# Altium schematic symbol library PBL - Capacitors.SCHLIB: 105 symbols (part 1 of 2)
Pins are listed as number, name and electrical type; pins without a type are passive.

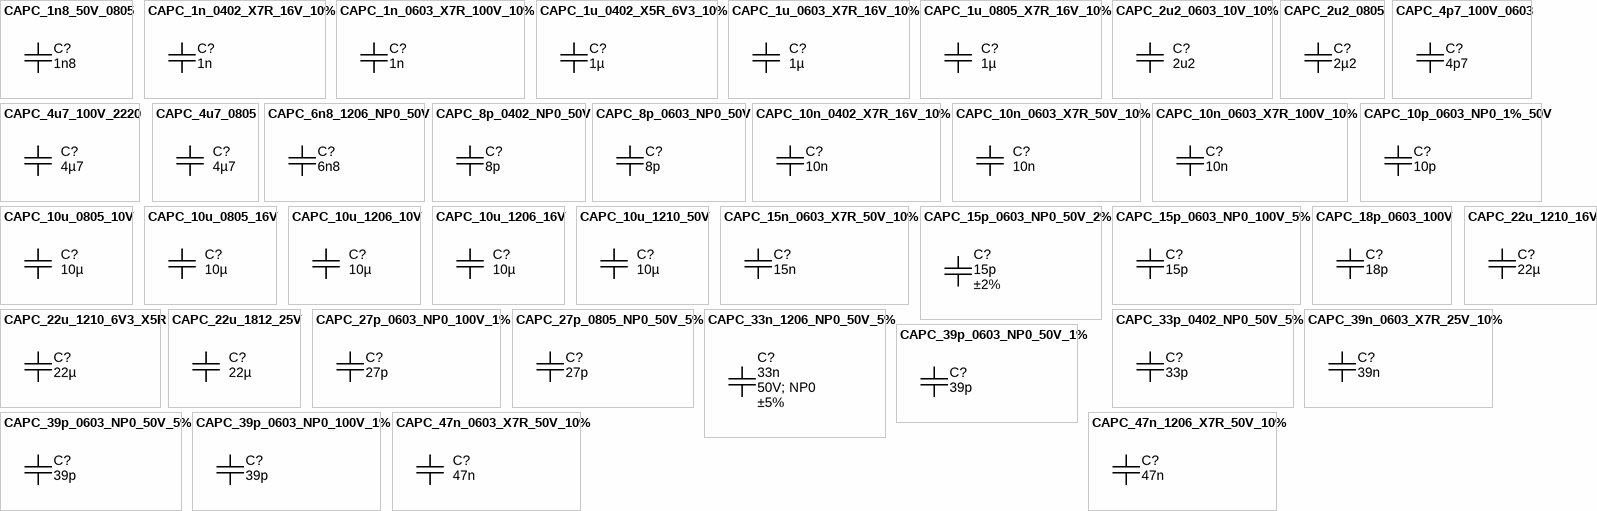
[diagram p0: symbols CAPC_1n8_50V_0805 to CAPC_47n_1206_X7R_50V_10%]

## CAPC_1n8_50V_0805
designator C?, comment value 1n8  (hidden comment: approved sub OK)
Capacitor SMD Cer 1.8nF 10% 50V X7R 0805; Manufacturer 1: AVX Corporation; Manufacturer Part Number 1: 08055C182KAT2A; Ratings: 50V; X7R; SCDType: source*; Tolerance: ±10%; Operating Temperature: -55°C ~ 125°C; Package / Case: 0805 (2012 metric); Supplier 1: Digi-Key; Supplier Part Number 1: 478-1374-1-ND
footprint CAPC2012X135N (Chip Capacitor, Body 2.0x1.2mm, 0805, IPC Medium Density)
pins: 1, 2

## CAPC_1n_0402_X7R_16V_10%
designator C?, comment 1n
Capacitor SMD Cer 1nF 10% 16V X7R 0402; Manufacturer 1: AVX Corporation; Manufacturer Part Number 1: 0402YC102KAT2A; Ratings: 16V; X7R; SCDType: spec; Tolerance: ±10%; Operating Temperature: -55°C ~ 125°C; Package / Case: 0402 (1005 Metric); Size / Dimension: 0.039" L x 0.020" W (1.00mm x 0.50mm); Manufacturer 2: Yageo; Manufacturer Part Number 2: CC0402KRX7R7BB102; Supplier 1: Digi-Key; Supplier Part Number 1: 478-6197-1-ND; ComponentLink1URL: http://www.avx.com/docs/Catalogs/cx7r.pdf; ComponentLink1Description: http://www.avx.com/docs/Catalogs/cx7r.pdf; Supplier 2: Digi-Key; Supplier Part Number 2: 311-1352-1-ND; ComponentLink2URL: http://www.yageo.com/documents/recent/UPY-GPHC_X7R_6.3V-to-50V_8.pdf; ComponentLink2Description: http://www.yageo.com/documents/recent/UPY-GPHC_X7R_6.3V-to-50V_8.pdf; Value: 1n
footprint CAPC1005X55N (Chip Capacitor, Body 1.0x0.5mm, 0402, IPC Medium Density)
pins: 1, 2

## CAPC_1n_0603_X7R_100V_10%
designator C?, comment value 1n  (hidden comment: approved sub OK)
Capacitor SMD Cer 1nF 10% 100V X7R 0603; Manufacturer 1: Murata Electronics North America; Manufacturer Part Number 1: GCM188R72A102KA37D; Ratings: 100V; X7R; Material: ceramic; SCDType: spec; Package / Case: 0603 (1608 metric); Tolerance: ±10%; Supplier 1: Digi-Key; Supplier Part Number 1: 490-4780-1-ND; Operating Temperature: -55°C ~ 125°C; Size / Dimension: 0.063" L x 0.031" W (1.60mm x 0.80mm); Thickness (Max): 0.035" (0.90mm); ComponentLink1URL: http://search.murata.co.jp/Ceramy/image/img/PDF/ENG/GCM188R72A102KA37.pdf; ComponentLink1Description: http://search.murata.co.jp/Ceramy/image/img/PDF/ENG/GCM188R72A102KA37.pdf
footprint CAPC1608X90N (Chip Capacitor, Body 1.6x0.8mm, 0603, IPC Medium Density)
pins: 1, 2

## CAPC_1u_0402_X5R_6V3_10%
designator C?, comment 1µ
Capacitor SMD Cer 1uF 10% 16V X5R 0402; Manufacturer 1: AVX Corporation; Manufacturer Part Number 1: 04026D105KAT2A; Ratings: 6.3V; X5R; SCDType: spec; Tolerance: ±10%; Operating Temperature: -55°C ~ 125°C; Package / Case: 0402 (1005 Metric); Size / Dimension: 0.039" L x 0.020" W (1.00mm x 0.50mm); Supplier 1: Digi-Key; Supplier Part Number 1: 478-2583-1-ND; RoHS 1: RoHS Compliant; ComponentLink1URL: http://www.avx.com/docs/Catalogs/cx5r.pdf; ComponentLink1Description: http://www.avx.com/docs/Catalogs/cx5r.pdf; Supplier 2: Digi-Key; Supplier Part Number 2: 311-1438-1-ND; Manufacturer 2: Yageo; Manufacturer Part Number 2: CC0402KRX5R5BB105; RoHS 2: RoHS Compliant; ComponentLink2URL: http://www.yageo.com/documents/recent/UPY-GPHC_X5R_4V-to-50V_12.pdf; ComponentLink2Description: http://www.yageo.com/documents/recent/UPY-GPHC_X5R_4V-to-50V_12.pdf; Supplier 3: Digi-Key; Supplier Part Number 3: 1276-1010-1-ND; Manufacturer 3: Samsung Electro-Mechanics America, Inc; Manufacturer Part Number 3: CL05A105KQ5NNNC; RoHS 3: RoHS Compliant; ComponentLink3URL: http://www.samsungsem.com/servlet/FileDownload?path=productsearch&sname=CL05A105KQ5NNNC.pdf&oname=CL05A105KQ5NNNC.pdf; ComponentLink3Description: http://www.samsungsem.com/servlet/FileDownload?path=productsearch&sname=CL05A105KQ5NNNC.pdf&oname=CL05A105KQ5NNNC.pdf; Supplier 4: Digi-Key; Supplier Part Number 4: 445-4998-1-ND; Manufacturer 4: TDK Corporation; Manufacturer Part Number 4: C1005X5R0J105K050BB; RoHS 4: RoHS Compliant; ComponentLink4URL: http://product.tdk.com/capacitor/mlcc/en/documents/mlcc_commercial_general_en.pdf; ComponentLink4Description: http://product.tdk.com/capacitor/mlcc/en/documents/mlcc_commercial_general_en.pdf; Supplier 5: Digi-Key; Supplier Part Number 5: 490-1320-1-ND; Manufacturer 5: Murata Electronics North America; Manufacturer Part Number 5: GRM155R60J105KE19D; RoHS 5: RoHS Compliant; ComponentLink5URL: http://www.murata.com/products/catalog/pdf/c02e.pdf; ComponentLink5Description: http://www.murata.com/products/catalog/pdf/c02e.pdf; Value: 1µ
footprint CAPC1005X55N (Chip Capacitor, Body 1.0x0.5mm, 0402, IPC Medium Density)
pins: 1, 2

## CAPC_1u_0603_X7R_16V_10%
designator C?, comment value 1µ  (hidden comment: approved sub OK)
Capacitor SMD Cer 1uF 10% 16V X7R 0603; Manufacturer 1: TDK Corporation; Manufacturer Part Number 1: C1608X7R1C105K; Ratings: 16V; X7R; Material: ceramic; SCDType: spec; Package / Case: 0603 (1608 metric); Tolerance: ±10%; Supplier 1: Digi-Key; Supplier Part Number 1: 445-1604-1-ND; ComponentLink1URL: http://product.tdk.com/capacitor/mlcc/en/documents/mlcc_commercial_general_en.pdf; ComponentLink1Description: http://product.tdk.com/capacitor/mlcc/en/documents/mlcc_commercial_general_en.pdf
footprint CAPC1608X90N (Chip Capacitor, Body 1.6x0.8mm, 0603, IPC Medium Density)
pins: 1, 2

## CAPC_1u_0805_X7R_16V_10%
designator C?, comment value 1µ  (hidden comment: approved sub OK)
Capacitor SMD Cer 1uF 10% 16V X7R 0805; Manufacturer 1: Yageo; Manufacturer Part Number 1: CC0805KKX7R7BB105; Ratings: 16V; X7R; Material: ceramic; SCDType: spec; Package / Case: 0805 (2012 metric); Tolerance: ±10%; Supplier 1: Digi-Key; Supplier Part Number 1: 311-1365-6-ND; RoHS 1: RoHS Compliant; Temperature Coefficient: X7R; ComponentLink1URL: http://www.yageo.com/documents/recent/UPY-GPHC_X7R_6.3V-to-50V_8.pdf; ComponentLink1Description: http://www.yageo.com/documents/recent/UPY-GPHC_X7R_6.3V-to-50V_8.pdf; Supplier 2: Digi-Key; Supplier Part Number 2: 399-1284-6-ND; Manufacturer 2: Kemet; Manufacturer Part Number 2: C0805C105K4RACTU; RoHS 2: RoHS Compliant; ComponentLink2URL: http://www.kemet.com/datasheets&C0805C105K4RACTU; ComponentLink2Description: http://www.kemet.com/datasheets&C0805C105K4RACTU; Supplier 3: Digi-Key; Supplier Part Number 3: 1276-1026-6-ND; Manufacturer 3: Samsung Electro-Mechanics America, Inc; Manufacturer Part Number 3: CL21B105KOFNNNE; RoHS 3: RoHS Compliant; ComponentLink3URL: http://www.samsungsem.com/servlet/FileDownload?type=spec&file=CL21B105KOFNNNE.pdf; ComponentLink3Description: http://www.samsungsem.com/servlet/FileDownload?type=spec&file=CL21B105KOFNNNE.pdf; Supplier 4: Digi-Key; Supplier Part Number 4: 445-1358-6-ND; Manufacturer 4: TDK Corporation; Manufacturer Part Number 4: C2012X7R1C105K125AA; RoHS 4: RoHS Compliant; ComponentLink4URL: http://product.tdk.com/capacitor/mlcc/en/documents/mlcc_commercial_general_en.pdf; ComponentLink4Description: http://product.tdk.com/capacitor/mlcc/en/documents/mlcc_commercial_general_en.pdf
footprint CAPC2012X135N (Chip Capacitor, Body 2.0x1.2mm, 0805, IPC Medium Density)
pins: 1, 2

## CAPC_2u2_0603_10V_10%
designator C?, comment value 2u2  (hidden comment: approved sub OK)
Capacitor SMD Cer 2.2uF 10% 10V X5R 0603; Manufacturer 1: AVX Corporation; Manufacturer Part Number 1: 0603ZD225KAT2A; Ratings: 10V; X5R; Material: ceramic; SCDType: spec; Package / Case: 0603 (1608 metric); Tolerance: ±10%; Supplier 1: Digi-Key; Supplier Part Number 1: 478-6212-1-ND; ComponentLink1URL: http://www.avx.com/docs/Catalogs/cx5r.pdf; ComponentLink1Description: http://www.avx.com/docs/Catalogs/cx5r.pdf
footprint CAPC1608X90N (Chip Capacitor, Body 1.6x0.8mm, 0603, IPC Medium Density)
pins: 1, 2

## CAPC_2u2_0805
designator C?, comment value 2µ2  (hidden comment: approved sub OK)
Capacitor SMD Cer 2.2uF 10% 16V X7R 0805; Manufacturer 1: Kemet; Manufacturer Part Number 1: C0805C225K4RACTU; Ratings: 16V; X7R; SCDType: undef; Supplier 1: Digi-Key; Supplier Part Number 1: 399-3523-1-ND; Tolerance: ±10%; Package / Case: 0805 (2012 metric)
footprint CAPC2012X135N (Chip Capacitor, Body 2.0x1.2mm, 0805, IPC Medium Density)
pins: 1, 2

## CAPC_4p7_100V_0603
designator C?, comment value 4p7  (hidden comment: approved sub OK)
Capacitor SMD Cer 4.7pF ±0.25pF 100V NP0 0603; Manufacturer 1: AVX Corporation; Manufacturer Part Number 1: 06031A4R7CAT2A; Ratings: 100V; NP0; SCDType: source*; Tolerance: ±0.25pF; Operating Temperature: -55°C ~ 125°C; Package / Case: 0603 (1608 metric); Supplier 1: Digi-Key; Supplier Part Number 1: 478-4992-1-ND
footprint CAPC1608X90N (Chip Capacitor, Body 1.6x0.8mm, 0603, IPC Medium Density)
pins: 1, 2

## CAPC_4u7_100V_2220
designator C?, comment value 4µ7  (hidden comment: approved sub OK)
Capacitor SMD Cer 4.7uF 10% 100V X7R 2220; Manufacturer: TDK Corporation; Manufacturer Part Number: C5750X7R2A475K; Ratings: 100V; X7R; Material: ceramic; SCDType: undef; Package / Case: 2220 (5750 Metric); Tolerance: ±10%; Supplier 1: Digi-Key; Supplier Part Number 1: 445-4526-1-ND
footprint CAPC5750X250N (Chip Capacitor, Body 5.7x5.0mm, 2220, IPC Medium Density)
pins: 1, 2

## CAPC_4u7_0805
designator C?, comment value 4µ7  (hidden comment: approved sub OK)
Capacitor SMD Cer 4.7uF 10% 16V X5R 0805; Manufacturer 1: Taiyo Yuden; Manufacturer Part Number 1: EMK212BJ475KG-T; Ratings: 16V; X5R; Material: ceramic; SCDType: spec; Package / Case: 0805 (2012 Metric); Tolerance: ±10%; Supplier 1: Digi-Key; Supplier Part Number 1: 587-1294-1-ND; Operating Temperature: -55°C ~ 85°C; Size / Dimension: 0.079" L x 0.049" W (2.00mm x 1.25mm); Thickness (Max): 0.053" (1.35mm); ComponentLink1URL: http://www.yuden.co.jp/productdata/catalog/en/mlcc01_e.pdf; ComponentLink1Description: http://www.yuden.co.jp/productdata/catalog/en/mlcc01_e.pdf; Supplier 2: Digi-Key; Supplier Part Number 2: 1276-1065-1-ND; Manufacturer 2: Samsung Electro-Mechanics America, Inc; Manufacturer Part Number 2: CL21A475KOFNNNE; RoHS 2: RoHS Compliant; ComponentLink2URL: http://www.samsungsem.com/servlet/FileDownload?type=spec&file=CL21A475KOFNNNE.pdf; ComponentLink2Description: http://www.samsungsem.com/servlet/FileDownload?type=spec&file=CL21A475KOFNNNE.pdf; Supplier 3: Digi-Key; Supplier Part Number 3: 399-8101-1-ND; Manufacturer 3: Kemet; Manufacturer Part Number 3: C0805C475K4PACTU; RoHS 3: RoHS Compliant; ComponentLink3URL: http://capacitoredge.kemet.com/capedge2/DataSheet?pn=C0805C475K4PACTU; ComponentLink3Description: http://capacitoredge.kemet.com/capedge2/DataSheet?pn=C0805C475K4PACTU; Supplier 4: Digi-Key; Supplier Part Number 4: 490-7215-1-ND; Manufacturer 4: Murata Electronics North America; Manufacturer Part Number 4: GRM21BR61C475MA88L; RoHS 4: RoHS Compliant; ComponentLink4URL: http://psearch.murata.com/capacitor/product/GRM21BR61C475MA88#.pdf; ComponentLink4Description: http://psearch.murata.com/capacitor/product/GRM21BR61C475MA88#.pdf; Supplier 5: Digi-Key; Supplier Part Number 5: 445-7640-1-ND; Manufacturer 5: TDK Corporation; Manufacturer Part Number 5: C2012X5R1C475K125AC; RoHS 5: RoHS Compliant; ComponentLink5URL: http://product.tdk.com/capacitor/mlcc/en/documents/mlcc_commercial_general_en.pdf; ComponentLink5Description: http://product.tdk.com/capacitor/mlcc/en/documents/mlcc_commercial_general_en.pdf; RoHS 1: RoHS Compliant
footprint CAPC2012X135N (Chip Capacitor, Body 2.0x1.2mm, 0805, IPC Medium Density)
pins: 1, 2

## CAPC_6n8_1206_NP0_50V
designator C?, comment 6n8
Capacitor SMD Cer 6.8nF 5% 50V NP0 1206; Manufacturer 1: TDK Corporation; Manufacturer Part Number 1: C3216C0G1H682J/0.60; Ratings: 50V; NP0; Material: Ceramic NP0; SCDType: spec; Tolerance: ±5%; Package / Case: 1206 (3216 metric); Supplier 1: Digi-Key; Supplier Part Number 1: 445-4005-1-ND; Value: 6n8
footprint CAPC3216X180N (Chip Capacitor, Body 3.2x1.6mm, 1.8mm H, 1206, IPC Medium Density)
pins: 1, 2

## CAPC_8p_0402_NP0_50V
designator C?, comment 8p
Capacitor SMD Cer 8pF ±0.5pF 50V NP0 0402; Manufacturer 1: Murata Electronics North America; Manufacturer Part Number 1: GRM1555C1H8R0DA01D; Ratings: 50V; NP0; SCDType: spec; Tolerance: ±0.5pF; Operating Temperature: -55°C ~ 125°C; Package / Case: 0402 (1005 Metric); Size / Dimension: 0.039" L x 0.020" W (1.00mm x 0.50mm); Supplier 1: Digi-Key; Supplier Part Number 1: 490-5867-1-ND; Supplier 2: Digi-Key; Supplier Part Number 2: 04025A8R0JAT2A-ND; Manufacturer 2: AVX Corporation; Manufacturer Part Number 2: 04025A8R0JAT2A; ComponentLink2URL: http://www.avx.com/docs/Catalogs/ccog.pdf; ComponentLink2Description: http://www.avx.com/docs/Catalogs/ccog.pdf; ComponentLink1URL: http://search.murata.co.jp/Ceramy/image/img/w_hinm/L0005E.pdf; ComponentLink1Description: http://search.murata.co.jp/Ceramy/image/img/w_hinm/L0005E.pdf; Value: 8p
footprint CAPC1005X55N (Chip Capacitor, Body 1.0x0.5mm, 0402, IPC Medium Density)
pins: 1, 2

## CAPC_8p_0603_NP0_50V
designator C?, comment 8p
Capacitor SMD Cer 8pF ±0.5pF 50V NP0 0603; Manufacturer 1: Murata Electronics North America; Manufacturer Part Number 1: GRM1885C1H8R0DZ01D; Ratings: 50V; NP0; SCDType: undef; Tolerance: ±0.5pF; Operating Temperature: -55°C ~ 125°C; Package / Case: 0603 (1608 Metric); Size / Dimension: 0.063" L x 0.032" W (1.60mm x 0.81mm); Thickness (Max): 0.035" (0.90mm); Supplier 1: Digi-Key; Supplier Part Number 1: 490-1399-1-ND; ComponentLink1URL: http://search.murata.co.jp/Ceramy/image/img/PDF/ENG/GRM1885C1H8R0DZ01.pdf; ComponentLink1Description: GRM1885C1H8R0DZ01 datasheet.pdf; Value: 8p
footprint CAPC1608X90N (Chip Capacitor, Body 1.6x0.8mm, 0603, IPC Medium Density)
pins: 1, 2

## CAPC_10n_0402_X7R_16V_10%
designator C?, comment 10n
Capacitor SMD Cer 10nF 10% 16V X7R 0402; Manufacturer 1: AVX Corporation; Manufacturer Part Number 1: 0402YC103KAT2A; Ratings: 16V; X7R; SCDType: spec; Tolerance: ±10%; Operating Temperature: -55°C ~ 125°C; Package / Case: 0402 (1005 Metric); Size / Dimension: 0.039" L x 0.020" W (1.00mm x 0.50mm); Manufacturer 2: Yageo; Manufacturer Part Number 2: CC0402KRX7R7BB103; Supplier 1: Digi-Key; Supplier Part Number 1: 478-1114-1-ND; ComponentLink1URL: http://www.avx.com/docs/Catalogs/cx7r.pdf; ComponentLink1Description: http://www.avx.com/docs/Catalogs/cx7r.pdf; Supplier 2: Digi-Key; Supplier Part Number 2: 311-1042-1-ND; ComponentLink2URL: http://www.yageo.com/documents/recent/UPY-GPHC_X7R_6.3V-to-50V_8.pdf; ComponentLink2Description: http://www.yageo.com/documents/recent/UPY-GPHC_X7R_6.3V-to-50V_8.pdf; Value: 10n
footprint CAPC1005X55N (Chip Capacitor, Body 1.0x0.5mm, 0402, IPC Medium Density)
pins: 1, 2

## CAPC_10n_0603_X7R_50V_10%
designator C?, comment value 10n  (hidden comment: approved sub OK)
Capacitor SMD Cer 10nF 10% 50V X7R 0603; Manufacturer 1: TDK Corporation; Manufacturer Part Number 1: C1608X7R1H103K; Ratings: 50V; X7R; Material: ceramic; SCDType: spec; Package / Case: 0603 (1608 metric); Tolerance: ±10%; Supplier 1: Digi-Key; Supplier Part Number 1: 445-1311-1-ND; ComponentLink1URL: http://product.tdk.com/capacitor/mlcc/en/documents/mlcc_commercial_general_en.pdf; ComponentLink1Description: http://product.tdk.com/capacitor/mlcc/en/documents/mlcc_commercial_general_en.pdf; Supplier 2: Digi-Key; Supplier Part Number 2: 478-1227-1-ND; Manufacturer 2: AVX Corporation; Manufacturer Part Number 2: 06035C103KAT2A; ComponentLink2URL: http://www.avx.com/docs/Catalogs/cx7r.pdf; ComponentLink2Description: http://www.avx.com/docs/Catalogs/cx7r.pdf
footprint CAPC1608X90N (Chip Capacitor, Body 1.6x0.8mm, 0603, IPC Medium Density)
pins: 1, 2

## CAPC_10n_0603_X7R_100V_10%
designator C?, comment value 10n  (hidden comment: approved sub OK)
Capacitor SMD Cer 10nF 10% 100V X7R 0603; Manufacturer: Murata Electronics North America; Manufacturer Part Number: GCM188R72A103KA37D; Ratings: 100V; X7R; Material: ceramic; SCDType: undef; Package / Case: 0603 (1608 metric); Tolerance: ±10%; Supplier 1: Digi-Key; Supplier Part Number 1: 490-4781-1-ND
footprint CAPC1608X90N (Chip Capacitor, Body 1.6x0.8mm, 0603, IPC Medium Density)
pins: 1, 2

## CAPC_10p_0603_NP0_1%_50V
designator C?, comment 10p
Capacitor SMD Cer 10pF 5% 50V NP0 0603; Manufacturer 1: Murata Electronics North America; Manufacturer Part Number 1: GRM1885C1H100FA01J; Ratings: 50V; NP0; SCDType: spec; Tolerance: ±5%; Operating Temperature: -55°C ~ 125°C; Package / Case: 0603 (1608 Metric); Size / Dimension: 0.063" L x 0.032" W (1.60mm x 0.81mm); Thickness (Max): 0.035" (0.90mm); Supplier 1: Digi-Key; Supplier Part Number 1: GRM1885C1H100FA01J-ND; Value: 10p
footprint CAPC1608X90N (Chip Capacitor, Body 1.6x0.8mm, 0603, IPC Medium Density)
pins: 1, 2

## CAPC_10u_0805_10V
designator C?, comment value 10µ  (hidden comment: approved sub OK)
Capacitor SMD Cer 10uF 10% 10V X5R 0805; Manufacturer 1: AVX Corporation; Manufacturer Part Number 1: 0805ZD106KAT2A; Ratings: 10V; X5R; Material: ceramic; SCDType: spec; Package / Case: 0805 (2012 metric); Tolerance: ±10%; Manufacturer 2: Kemet; Manufacturer Part Number 2: C0805C106K8PACTU; Supplier 1: Digi-Key; Supplier Part Number 1: 478-5167-1-ND; ComponentLink1URL: http://www.avx.com/docs/Catalogs/cx5r.pdf; ComponentLink1Description: http://www.avx.com/docs/Catalogs/cx5r.pdf; ComponentLink2URL: http://www.kemet.com/datasheets&C0805C106K8PACTU; ComponentLink2Description: http://www.kemet.com/datasheets&C0805C106K8PACTU; Supplier 2: Digi-Key; Supplier Part Number 2: 399-4925-1-ND
footprint CAPC2012X135N (Chip Capacitor, Body 2.0x1.2mm, 0805, IPC Medium Density)
pins: 1, 2

## CAPC_10u_0805_16V
designator C?, comment value 10µ  (hidden comment: approved sub OK)
Capacitor SMD Cer 10uF 10% 16V X7R 0805; Manufacturer 1: Samsung; Manufacturer Part Number 1: CL21B106KBN; Ratings: 16V; X7R; Material: ceramic; SCDType: undef; Package / Case: 0805 (2012 metric); Tolerance: ±10%
footprint CAPC1608N (Chip Capacitor, Body 1.6x0.8mm, IPC Medium Density)
footprint CAPC3216N (Chip Capacitor, Body 3.2x1.6mm, IPC Medium Density)
footprint CAPC2012X135N (Chip Capacitor, Body 2.0x1.2mm, 0805, IPC Medium Density)
pins: 1, 2

## CAPC_10u_1206_10V
designator C?, comment value 10µ  (hidden comment: approved sub OK)
Capacitor SMD Cer 10uF 10% 10V X5R 1206; Manufacturer 1: KEMET; Manufacturer Part Number 1: C1206C106K8PACTU; Ratings: 10V; X5R; Material: ceramic; SCDType: undef; Package / Case: 1206 (3216 metric); Tolerance: ±10%; Supplier 1: Digi-Key; Supplier Part Number 1: C1206C106K8PACTU-ND
footprint CAPC3216X180N (Chip Capacitor, Body 3.2x1.6mm, 1.8mm H, 1206, IPC Medium Density)
pins: 1, 2

## CAPC_10u_1206_16V
designator C?, comment value 10µ  (hidden comment: approved sub OK)
Capacitor SMD Cer 10uF 10% 16V X7R 1206; Manufacturer 1: Kemet; Manufacturer Part Number 1: C1206C106K4RACTU; Ratings: 16V; X7R; Material: ceramic; SCDType: spec; Package / Case: 1206 (3216 metric); Tolerance: ±10%; Supplier 1: Digi-Key; Supplier Part Number 1: 399-3525-1-ND
footprint CAPC3216X180N (Chip Capacitor, Body 3.2x1.6mm, 1.8mm H, 1206, IPC Medium Density)
pins: 1, 2

## CAPC_10u_1210_50V
designator C?, comment 10µ
Capacitor SMD Cer 10uF 20% 16V X5R 1210; Manufacturer 1: Taiyo Yuden; Manufacturer Part Number 1: UMK325BJ106MM-T; Ratings: 50V; X5R; Material: ceramic; SCDType: spec; Package / Case: 1210 (3225 Metric); Tolerance: ±20%; Size / Dimension: 0.126" L x 0.098" W (3.20mm x 2.50mm); Supplier 1: Digi-Key; Supplier Part Number 1: 587-2225-1-ND; Value: 10µ
footprint CAPC3225X220N (Chip Capacitor, Body 3.2x2.5mm, 1210, IPC Medium Density)
pins: 1, 2

## CAPC_15n_0603_X7R_50V_10%
designator C?, comment value 15n  (hidden comment: approved sub OK)
Capacitor SMD Cer 15nF 10% 50V X7R 0603; Manufacturer Part Number 1: GRM188R71H153KA01D; Manufacturer 1: Murata Electronics North America; Ratings: 50V; X7R; SCDType: spec; Tolerance: ±10%; Operating Temperature: -55°C ~ 125°C; Package / Case: 0603 (1608 metric); Supplier 1: Digi-Key; Supplier Part Number 1: 490-1514-1-ND; ComponentLink1URL: http://psearch.murata.com/capacitor/product/GRM188R71H153KA01#.pdf; ComponentLink1Description: http://psearch.murata.com/capacitor/product/GRM188R71H153KA01#.pdf; ComponentLink2URL: http://www.avx.com/docs/Catalogs/cx7r.pdf; ComponentLink2Description: http://www.avx.com/docs/Catalogs/cx7r.pdf; Supplier 2: Digi-Key; Supplier Part Number 2: 478-1229-1-ND; Manufacturer 2: AVX Corporation; Manufacturer Part Number 2: 06035C153KAT2A; Supplier 3: Digi-Key; Supplier Part Number 3: 445-5189-1-ND; Manufacturer 3: TDK Corporation; Manufacturer Part Number 3: C1608X7R1H153K080AA; ComponentLink3URL: http://product.tdk.com/capacitor/mlcc/en/documents/mlcc_commercial_general_en.pdf; ComponentLink3Description: http://product.tdk.com/capacitor/mlcc/en/documents/mlcc_commercial_general_en.pdf
footprint CAPC1608X90N (Chip Capacitor, Body 1.6x0.8mm, 0603, IPC Medium Density)
pins: 1, 2

## CAPC_15p_0603_NP0_50V_2%
designator C?, comment Tolerance: ±2%  (hidden comment: 15p)
Capacitor SMD Cer 15pF 2% 50V NP0 0603; Manufacturer 1: TDK Corporation; Manufacturer Part Number 1: C1608C0G1H150G080AA; Ratings: 50V; NP0; SCDType: source; Operating Temperature: -55°C ~ 125°C; Package / Case: 0603 (1608 Metric); Thickness (Max): 0.035" (0.90mm); Supplier 1: Digi-Key; Supplier Part Number 1: 445-7026-1-ND; RoHS 1: RoHS Compliant; ComponentLink1URL: http://www.tdk.com/pdf/tight_tol_B11.pdf; ComponentLink1Description: http://www.tdk.com/pdf/tight_tol_B11.pdf; Supplier 2: Digi-Key; Supplier Part Number 2: 399-9003-1-ND; Manufacturer 2: Kemet; Manufacturer Part Number 2: C0603C150G5GACTU; RoHS 2: RoHS Compliant; ComponentLink2URL: http://www.kemet.com/datasheets&C0603C150G5GACTU; ComponentLink2Description: http://www.kemet.com/datasheets&C0603C150G5GACTU; Supplier 3: Digi-Key; Supplier Part Number 3: 1276-2188-1-ND; Manufacturer 3: Samsung Electro-Mechanics America, Inc; Manufacturer Part Number 3: CL10C150FB8NNWC; RoHS 3: RoHS Compliant; ComponentLink3URL: http://www.samsungsem.com/servlet/FileDownload?path=productsearch&sname=CL10C150FB8NNWC.pdf&oname=CL10C150FB8NNWC.pdf; ComponentLink3Description: http://www.samsungsem.com/servlet/FileDownload?path=productsearch&sname=CL10C150FB8NNWC.pdf&oname=CL10C150FB8NNWC.pdf; Supplier 4: Digi-Key; Supplier Part Number 4: 06035A150GAT2A-ND; Manufacturer 4: AVX Corporation; Manufacturer Part Number 4: 06035A150GAT2A; RoHS 4: RoHS Compliant; ComponentLink4URL: http://www.avx.com/docs/Catalogs/ccog.pdf; ComponentLink4Description: http://www.avx.com/docs/Catalogs/ccog.pdf; Value: 15p
pins: 1, 2

## CAPC_15p_0603_NP0_100V_5%
designator C?, comment 15p
Capacitor SMD Cer 15pF 5% 100V NP0 0603; Manufacturer 1: AVX Corporation; Manufacturer Part Number 1: 06031A150JAT2A; Ratings: 100V; NP0; SCDType: spec; Tolerance: ±5%; Operating Temperature: -55°C ~ 125°C; Package / Case: 0603 (1608 Metric); Size / Dimension: 0.063" L x 0.032" W (1.60mm x 0.81mm); Thickness (Max): 0.035" (0.90mm); Supplier 1: Digi-Key; Supplier Part Number 1: 478-1141-1-ND; Mounting Type: Surface Mount, MLCC; ComponentLink1URL: http://www.avx.com/docs/Catalogs/ccog.pdf; ComponentLink1Description: http://www.avx.com/docs/Catalogs/ccog.pdf; Value: 15p
footprint CAPC1608X90N (Chip Capacitor, Body 1.6x0.8mm, 0603, IPC Medium Density)
pins: 1, 2

## CAPC_18p_0603_100V
designator C?, comment 18p
Capacitor SMD Cer 18pF 2% 100V NP0 0603; Manufacturer 1: AVX Corporation; Manufacturer Part Number 1: 06031A180GAT2A; Ratings: 100V; NP0; SCDType: spec; Tolerance: ±2%; Operating Temperature: -55°C ~ 125°C; Package / Case: 0603 (1608 Metric); Supplier 1: Digi-Key; Supplier Part Number 1: 478-6025-1-ND; Size / Dimension: 0.063" L x 0.032" W (1.60mm x 0.81mm); Thickness (Max): 0.035" (0.90mm); ComponentLink1URL: http://www.avx.com/docs/Catalogs/ccog.pdf; ComponentLink1Description: http://www.avx.com/docs/Catalogs/ccog.pdf; Value: 18p
footprint CAPC1608X90N (Chip Capacitor, Body 1.6x0.8mm, 0603, IPC Medium Density)
pins: 1, 2

## CAPC_22u_1210_6V3_X5R
designator C?, comment value 22µ  (hidden comment: approved sub OK)
Capacitor SMD Cer 22uF 20% 6.3V X5R 1210; Manufacturer 1: TDK Corporation; Manufacturer Part Number 1: C3225X5R0J226M/2.00; Ratings: 6.3V; X5R; Voltage - Rated: 6V3; SCDType: spec; Tolerance: ±20%; Package / Case: 1210 (3225 metric); Supplier 1: Digi-Key; Supplier Part Number 1: 445-1595-1-ND; Mounting Type: Surface Mount, MLCC; Operating Temperature: -55°C ~ 85°C; Thickness (Max): 0.087" (2.20mm); ComponentLink1URL: http://www.tdk.com/pdf/general_B11.pdf; ComponentLink1Description: http://www.tdk.com/pdf/general_B11.pdf
footprint CAPC3225X220N (Chip Capacitor, Body 3.2x2.5mm, 1210, IPC Medium Density)
pins: 1, 2

## CAPC_22u_1210_16V
designator C?, comment value 22µ  (hidden comment: approved sub OK)
Capacitor SMD Cer 22uF 20% 16V X7R 1210; Manufacturer: TDK Corporation; Manufacturer Part Number: C3225X7R1C226K; Ratings: 16V; X7R; SCDType: spec; Tolerance: ±20%; Package / Case: 1210 (3225 metric); Supplier 1: Digi-Key; Supplier Part Number 1: 445-3945-2-ND
footprint CAPC3225X220N (Chip Capacitor, Body 3.2x2.5mm, 1210, IPC Medium Density)
pins: 1, 2

## CAPC_22u_1812_25V
designator C?, comment value 22µ  (hidden comment: approved sub OK)
Capacitor SMD Cer 22uF 20% 25V X5R 1812; Manufacturer 1: TDK Corporation; Manufacturer Part Number 1: C4532X5R1E226M; Ratings: 25V; X5R; Material: ceramic; SCDType: undef; Package / Case: 1812 (4532 metric); Tolerance: ±20%; Supplier 1: Digi-Key; Supplier Part Number 1: 445-1444-1-ND
footprint CAPC4532X280N (Chip Capacitor, Body 4.5x3.2mm, 1812, IPC Medium Density)
pins: 1, 2

## CAPC_27p_0603_NP0_100V_1%
designator C?, comment 27p
Capacitor SMD Cer 27pF 1% 100V NP0 0603; Manufacturer 1: AVX Corporation; Manufacturer Part Number 1: 06031A270FAT2A; Ratings: 100V; NP0; SCDType: undef; Tolerance: ±1%; Operating Temperature: -55°C ~ 125°C; Package / Case: 0603 (1608 Metric); Supplier 1: Digi-Key; Supplier Part Number 1: 478-3681-1-ND; Value: 27p
footprint CAPC1608X90N (Chip Capacitor, Body 1.6x0.8mm, 0603, IPC Medium Density)
pins: 1, 2

## CAPC_27p_0805_NP0_50V_5%
designator C?, comment value 27p  (hidden comment: approved sub OK)
Capacitor SMD Cer 27pF 5% 50V NP0 0805; Manufacturer 1: Panasonic - ECG; Manufacturer Part Number 1: ECJ-2VC1H270J; Ratings: 50V; NP0; SCDType: undef; Tolerance: ±5%; Operating Temperature: -55°C ~ 125°C; Package / Case: 0805 (2012 metric); Supplier 1: Digi-Key; Supplier Part Number 1: PCC270CGCT-ND
footprint CAPC2012X135N (Chip Capacitor, Body 2.0x1.2mm, 0805, IPC Medium Density)
pins: 1, 2

## CAPC_33n_1206_NP0_50V_5%
designator C?, comment Tolerance: ±5%  Ratings: 50V; NP0  (hidden comment: 33n)
Capacitor SMD Cer 33nF 1206 NP0 50V 5%; Manufacturer 1: TDK Corporation; Manufacturer Part Number 1: C3216C0G1H333J085AA; SCDType: undef; Operating Temperature: -55°C ~ 125°C; Package / Case: 1206 (3216 Metric); Size / Dimension: 0.126" L x 0.063" W (3.20mm x 1.60mm); Thickness (Max): 0.037" (0.95mm); ComponentLink1URL: http://product.tdk.com/capacitor/mlcc/en/documents/mlcc_commercial_general_en.pdf; ComponentLink1Description: http://product.tdk.com/capacitor/mlcc/en/documents/mlcc_commercial_general_en.pdf; Supplier 1: Digi-Key; Supplier Part Number 1: 445-7691-1-ND; Value: 33n
footprint CAPC3216X100N (Chip Capacitor, Body 3.2x1.6mm, 1.0mm H, 1206, IPC Medium Density)
pins: 1, 2

## CAPC_33p_0402_NP0_50V_5%
designator C?, comment 33p
Capacitor SMD Cer 33pF 5% 50V NP0 0402; Manufacturer 1: AVX Corporation; Manufacturer Part Number 1: 04025A330JAT2A; Ratings: 50V; NP0; SCDType: spec; Tolerance: ±5%; Operating Temperature: -55°C ~ 125°C; Package / Case: 0402 (1005 Metric); Size / Dimension: 0.039" L x 0.020" W (1.00mm x 0.50mm); Manufacturer 2: Yageo; Manufacturer Part Number 2: CC0402JRNPO9BN330; Thickness (Max): 0.022" (0.55mm); Supplier 1: Digi-Key; Supplier Part Number 1: 478-1076-1-ND; ComponentLink1URL: http://www.avx.com/docs/Catalogs/ccog.pdf; ComponentLink1Description: http://www.avx.com/docs/Catalogs/ccog.pdf; ComponentLink2URL: http://www.yageo.com/documents/recent/UPY-GP_NP0_16V-to-50V_8.pdf; ComponentLink2Description: http://www.yageo.com/documents/recent/UPY-GP_NP0_16V-to-50V_8.pdf; Supplier 2: Digi-Key; Supplier Part Number 2: 311-1020-1-ND; Value: 33p
footprint CAPC1005X55N (Chip Capacitor, Body 1.0x0.5mm, 0402, IPC Medium Density)
pins: 1, 2

## CAPC_39n_0603_X7R_25V_10%
designator C?, comment value 39n  (hidden comment: approved sub OK)
Capacitor SMD Cer 39nF 10% 25V X7R 0603; Manufacturer 1: Kemet; Manufacturer Part Number 1: C0603C393K3RACTU; Ratings: 100V; X7R; Material: ceramic; SCDType: spec; Package / Case: 0603 (1608 Metric); Tolerance: ±10%; Supplier 1: Digi-Key; Operating Temperature: -55°C ~ 125°C; Size / Dimension: 0.063" L x 0.031" W (1.60mm x 0.80mm); Thickness (Max): 0.035" (0.90mm); Temperature Coefficient: X7R; Voltage - Rated: 25V; Supplier Part Number 1: 399-7914-1-ND
footprint CAPC1608X90N (Chip Capacitor, Body 1.6x0.8mm, 0603, IPC Medium Density)
pins: 1, 2

## CAPC_39p_0603_NP0_50V_1%
designator C?, comment 39p
Capacitor SMD Cer 39pF 1% 50V NP0 0603; Manufacturer 1: AVX Corporation; Manufacturer Part Number 1: 06035A390FAT; Ratings: 50V; NP0; SCDType: source; Temperature Coefficient: C0G, NP0; Tolerance: ±1%; Operating Temperature: -55°C ~ 125°C; Package / Case: 0603 (1608 Metric); Supplier 1: Digi-Key; Supplier Part Number 1: 478-7918-6-ND; RoHS 1: RoHS Compliant; ComponentLink1URL: http://www.avx.com/docs/Catalogs/ccog.pdf; ComponentLink1Description: http://www.avx.com/docs/Catalogs/ccog.pdf; Supplier 2: Digi-Key; Supplier Part Number 2: 399-7909-6-ND; Manufacturer 2: Kemet; Manufacturer Part Number 2: C0603C390F5GACTU; RoHS 2: RoHS Compliant; ComponentLink2URL: http://www.kemet.com/datasheets&C0603C390F5GACTU; ComponentLink2Description: http://www.kemet.com/datasheets&C0603C390F5GACTU; Supplier 3: Digi-Key; Supplier Part Number 3: GRM1885C1H390FA01D-ND; Manufacturer 3: Murata Electronics North America; Manufacturer Part Number 3: GRM1885C1H390FA01; RoHS 3: RoHS Compliant; ComponentLink3URL: http://search.murata.co.jp/Ceramy/image/img/A01X/G101/ENG/GRM1885C1H390FA01-01.pdf; ComponentLink3Description: http://search.murata.co.jp/Ceramy/image/img/A01X/G101/ENG/GRM1885C1H390FA01-01.pdf; Value: 39p
footprint CAPC1608X90N (Chip Capacitor, Body 1.6x0.8mm, 0603, IPC Medium Density)
pins: 1, 2

## CAPC_39p_0603_NP0_50V_5%
designator C?, comment 39p
Capacitor SMD Cer 39pF 5% 50V NP0 0603; Manufacturer 1: TDK Corporation; Manufacturer Part Number 1: C1608C0G1H390J; Ratings: 50V; NP0; SCDType: undef; Tolerance: ±5%; Operating Temperature: -55°C ~ 125°C; Package / Case: 0603 (1608 Metric); Size / Dimension: 0.063" L x 0.031" W (1.60mm x 0.80mm); Thickness (Max): 0.031" (0.80mm); Supplier 1: Digi-Key; Supplier Part Number 1: 445-1276-1-ND; ComponentLink1URL: http://www.tdk.com/pdf/general_B11.pdf; ComponentLink1Description: Datasheet; Value: 39p
footprint CAPC1608X90N (Chip Capacitor, Body 1.6x0.8mm, 0603, IPC Medium Density)
pins: 1, 2

## CAPC_39p_0603_NP0_100V_1%
designator C?, comment 39p
Capacitor SMD Cer 39pF 1% 100V NP0 0603; Manufacturer 1: AVX Corporation; Manufacturer Part Number 1: 06031A390FAT2A; Ratings: 100V; NP0; SCDType: source; Temperature Coefficient: C0G, NP0; Tolerance: ±1%; Operating Temperature: -55°C ~ 125°C; Package / Case: 0603 (1608 Metric); Supplier 1: Digi-Key; Supplier Part Number 1: 478-5773-6-ND; RoHS 1: RoHS Compliant; ComponentLink1URL: http://www.avx.com/docs/Catalogs/ccog.pdf; ComponentLink1Description: http://www.avx.com/docs/Catalogs/ccog.pdf; Supplier 2: Digi-Key; Supplier Part Number 2: C0603C390F1GACTU-ND; Manufacturer 2: Kemet; Manufacturer Part Number 2: C0603C390F1GACTU; RoHS 2: RoHS Compliant; ComponentLink2URL: http://www.kemet.com/datasheets&C0603C390F1GACTU; ComponentLink2Description: http://www.kemet.com/datasheets&C0603C390F1GACTU; Supplier 3: Mouser; Supplier Part Number 3: 81-GRM1885C2A390FA1J; Manufacturer 3: Murata; Manufacturer Part Number 3: GRM1885C2A390FA01J; RoHS 3: RoHS Compliant; ComponentLink3URL: http://psearch.murata.com/capacitor/product/GRM0225C1C1R0WD05%23.pdf; ComponentLink3Description: http://psearch.murata.com/capacitor/product/GRM0225C1C1R0WD05%23.pdf; Value: 39p
footprint CAPC1608X90N (Chip Capacitor, Body 1.6x0.8mm, 0603, IPC Medium Density)
pins: 1, 2

## CAPC_47n_0603_X7R_50V_10%
designator C?, comment 47n
Capacitor SMD Cer 47nF 10% 50V X7R 0603; Manufacturer 1: AVX Corporation; Manufacturer Part Number 1: 06035C473KAT2A; Ratings: 50V; X7R; Material: ceramic; SCDType: spec; Manufacturer 3: Samsung; Manufacturer Part Number 3: CL10B473KBN; Package / Case: 0603 (1608 metric); Tolerance: ±10%; Supplier 1: Digi-Key; Supplier Part Number 1: 478-5146-1-ND; Manufacturer Part Number 2: C1608X7R1H473K080AA; Manufacturer 2: TDK Corporation; ComponentLink1URL: http://www.avx.com/docs/Catalogs/cx7r.pdf; ComponentLink1Description: http://www.avx.com/docs/Catalogs/cx7r.pdf; Supplier 2: Digi-Key; Supplier Part Number 2: 445-1313-1-ND; ComponentLink2URL: http://product.tdk.com/capacitor/mlcc/en/documents/mlcc_commercial_general_en.pdf; ComponentLink2Description: http://product.tdk.com/capacitor/mlcc/en/documents/mlcc_commercial_general_en.pdf; Value: 47n
footprint CAPC1608X90N (Chip Capacitor, Body 1.6x0.8mm, 0603, IPC Medium Density)
footprint CAPC3216N (Chip Capacitor, Body 3.2x1.6mm, IPC Medium Density)
footprint CAPC2012N (Chip Capacitor, Body 2.0x1.2mm, IPC Medium Density)
pins: 1, 2

## CAPC_47n_1206_X7R_50V_10%
designator C?, comment 47n
Capacitor SMD Cer 47nF 10% 50V X7R 1206; Manufacturer 1: Yageo; Manufacturer Part Number 1: CC1206KRX7R9BB473; Ratings: 50V; X7R; SCDType: spec; Package / Case: 1206 (3216 Metric); Tolerance: ±10%; Operating Temperature: -55°C ~ 125°C; Size / Dimension: 0.126" L x 0.063" W (3.20mm x 1.60mm); Supplier 1: Digi-Key; Voltage - Rated: 50V; Supplier Part Number 1: 311-1178-1-ND; Value: 47n
footprint CAPC3216X180N (Chip Capacitor, Body 3.2x1.6mm, 1.8mm H, 1206, IPC Medium Density)
pins: 1, 2

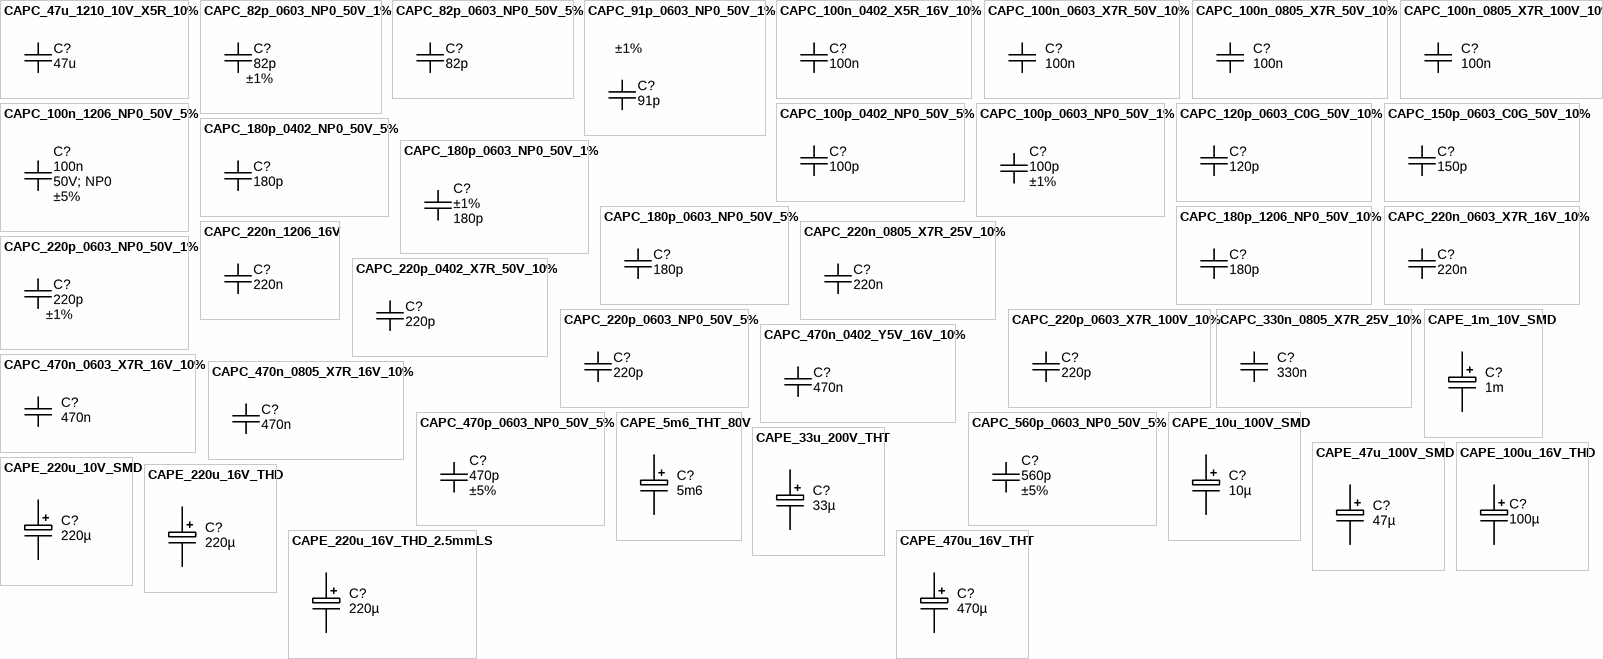
[diagram p1: symbols CAPC_47u_1210_10V_X5R_10% to CAPE_470u_16V_THT]

## CAPC_47u_1210_10V_X5R_10%
designator C?, comment 47u
Capacitor SMD Cer 47uF 10% 10V 1210; Manufacturer 1: Murata Electronics North America; Manufacturer Part Number 1: GRM32ER61A476KE20L; Ratings: 10V; X5R; SCDType: undef; Package / Case: 1210 (3225 Metric); Tolerance: ±10%; Operating Temperature: -55°C ~ 85°C; Size / Dimension: 0.126" L x 0.098" W (3.20mm x 2.50mm); Supplier 1: Digi-Key; Voltage - Rated: 10V; Supplier Part Number 1: 490-3887-2-ND; Value: 47u
footprint CAPC3225X220N (Chip Capacitor, Body 3.2x2.5mm, 1210, IPC Medium Density)
pins: 1, 2

## CAPC_82p_0603_NP0_50V_1%
designator C?, comment Tolerance: ±1%  (hidden comment: 82p)
Capacitor SMD Cer 82pF 1% 50V NP0 0603; Manufacturer 1: Kemet; Manufacturer Part Number 1: C0603C820F5GACTU; Ratings: 50V; NP0; SCDType: spec; Operating Temperature: -55°C ~ 125°C; Package / Case: 0603 (1608 Metric); Size / Dimension: 0.063" L x 0.031" W (1.60mm x 0.80mm); Thickness (Max): 0.034" (0.87mm); Supplier 1: Digi-Key; Supplier Part Number 1: 399-7959-1-ND; ComponentLink1URL: http://www.kemet.com/datasheets&C0603C820F5GACTU; ComponentLink1Description: http://www.kemet.com/datasheets&C0603C820F5GACTU; Supplier 2: Digi-Key; Supplier Part Number 2: 06035A820FAT2A-ND; Manufacturer 2: AVX Corporation; Manufacturer Part Number 2: 06035A820FAT2A; RoHS 2: RoHS Compliant; ComponentLink2URL: http://www.avx.com/docs/Catalogs/ccog.pdf; ComponentLink2Description: http://www.avx.com/docs/Catalogs/ccog.pdf; RoHS 1: RoHS Compliant; Supplier 3: Digi-Key; Supplier Part Number 3: GRM1885C1H820FA01D-ND; Manufacturer 3: Murata Electronics North America; Manufacturer Part Number 3: GRM1885C1H820FA01D; RoHS 3: RoHS Compliant; ComponentLink3URL: http://www.murata.com/products/catalog/pdf/c02e.pdf; ComponentLink3Description: http://www.murata.com/products/catalog/pdf/c02e.pdf; Supplier 4: Digi-Key; Supplier Part Number 4: 1276-2340-1-ND; Manufacturer 4: Samsung Electro-Mechanics America, Inc; Manufacturer Part Number 4: CL10C820FB8NNNC; RoHS 4: RoHS Compliant; ComponentLink4URL: http://www.samsungsem.com/servlet/FileDownload?type=spec&file=CL10C820FB8NNNC.pdf; ComponentLink4Description: http://www.samsungsem.com/servlet/FileDownload?type=spec&file=CL10C820FB8NNNC.pdf; Value: 82p
footprint CAPC1608X90N (Chip Capacitor, Body 1.6x0.8mm, 0603, IPC Medium Density)
pins: 1, 2

## CAPC_82p_0603_NP0_50V_5%
designator C?, comment 82p
Capacitor SMD Cer 82pF 5% 50V NP0 0603; Manufacturer 1: Yageo; Manufacturer Part Number 1: CC0603JRNPO9BN820; Ratings: 50V; NP0; SCDType: undef; Tolerance: ±5%; Operating Temperature: -55°C ~ 125°C; Package / Case: 0603 (1608 Metric); Size / Dimension: 0.063" L x 0.031" W (1.60mm x 0.80mm); Thickness (Max): 0.031" (0.80mm); Supplier 1: Digi-Key; Supplier Part Number 1: 311-1068-1-ND; ComponentLink1URL: http://www.yageo.com/documents/recent/UPY-GP_NP0_16V-to-50V_8.pdf; ComponentLink1Description: Datasheet; Value: 82p
footprint CAPC1608X90N (Chip Capacitor, Body 1.6x0.8mm, 0603, IPC Medium Density)
pins: 1, 2

## CAPC_91p_0603_NP0_50V_1%
designator C?, comment Tolerance: ±1%  (hidden comment: 91p)
Capacitor SMD Cer 91pF 1% 50V NP0 0603; Manufacturer 1: AVX Corporation; Manufacturer Part Number 1: 06035U910FAT2A; Ratings: 50V; NP0; SCDType: source; Operating Temperature: -55°C ~ 125°C; Package / Case: 0603 (1608 Metric); Size / Dimension: 0.063" L x 0.031" W (1.60mm x 0.80mm); Supplier 1: Digi-Key; Supplier Part Number 1: 06035U910FAT2A-ND; RoHS 1: RoHS Compliant; ComponentLink1URL: http://www.avx.com/docs/Catalogs/useries.pdf; ComponentLink1Description: http://www.avx.com/docs/Catalogs/useries.pdf; Supplier 2: Mouser; Supplier Part Number 2: 81-GRM39C910F50; Manufacturer 2: Murata; Manufacturer Part Number 2: GRM1885C1H910FA01D; RoHS 2: RoHS Compliant; ComponentLink2URL: http://www.murata.com/products/catalog/pdf/c02e.pdf; ComponentLink2Description: http://www.murata.com/products/catalog/pdf/c02e.pdf; Value: 91p
footprint CAPC1608X90N (Chip Capacitor, Body 1.6x0.8mm, 0603, IPC Medium Density)
pins: 1, 2

## CAPC_100n_0402_X5R_16V_10%
designator C?, comment 100n
Capacitor SMD Cer 100nF 10% 16V X5R 0402; Manufacturer 1: AVX Corporation; Manufacturer Part Number 1: 0402YD104KAT2A; Ratings: 16V; X5R; SCDType: spec; Tolerance: ±10%; Operating Temperature: -55°C ~ 125°C; Package / Case: 0402 (1005 Metric); Size / Dimension: 0.039" L x 0.020" W (1.00mm x 0.50mm); Supplier 1: Digi-Key; Supplier Part Number 1: 478-1126-1-ND; ComponentLink1URL: http://www.avx.com/docs/Catalogs/cx5r.pdf; ComponentLink1Description: http://www.avx.com/docs/Catalogs/cx5r.pdf; Supplier 2: Digi-Key; Supplier Part Number 2: 311-1347-1-ND; Manufacturer 2: Yageo; Manufacturer Part Number 2: CC0402KRX5R7BB104; ComponentLink2URL: http://www.yageo.com/documents/recent/UPY-GPHC_X5R_4V-to-50V_12.pdf; ComponentLink2Description: http://www.yageo.com/documents/recent/UPY-GPHC_X5R_4V-to-50V_12.pdf; Value: 100n
footprint CAPC1005X55N (Chip Capacitor, Body 1.0x0.5mm, 0402, IPC Medium Density)
pins: 1, 2

## CAPC_100n_0603_X7R_50V_10%
designator C?, comment value 100n  (hidden comment: approved sub OK)
Capacitor SMD Cer 100nF 10% 50V X7R 0603; Manufacturer 1: AVX Corporation; Manufacturer Part Number 1: 06035C104KAT2A; Ratings: 50V; X7R; Material: ceramic; SCDType: spec; Manufacturer 2: TDK Corporation; Manufacturer Part Number 2: C1608X7R1H104K; Package / Case: 0603 (1608 Metric); Tolerance: ±10%; Supplier 1: Digi-Key; Supplier Part Number 1: 478-5052-1-ND; ComponentLink1URL: http://www.avx.com/docs/Catalogs/cx7r.pdf; ComponentLink1Description: http://www.avx.com/docs/Catalogs/cx7r.pdf; Supplier 2: Digi-Key; Supplier Part Number 2: 445-1314-1-ND; ComponentLink2URL: http://product.tdk.com/capacitor/mlcc/en/documents/mlcc_commercial_general_en.pdf; ComponentLink2Description: http://product.tdk.com/capacitor/mlcc/en/documents/mlcc_commercial_general_en.pdf
footprint CAPC1608X90N (Chip Capacitor, Body 1.6x0.8mm, 0603, IPC Medium Density)
pins: 1, 2

## CAPC_100n_0805_X7R_50V_10%
designator C?, comment value 100n  (hidden comment: approved sub OK)
Capacitor SMD Cer 100nF 10% 50V X7R 0805; Manufacturer 1: Kemet; Manufacturer Part Number 1: C0805C104K5RACTU; Ratings: 50V; X7R; Material: ceramic; SCDType: undef; Package / Case: 0805 (2012 metric); Tolerance: ±10%; Supplier 1: Digi-Key; Supplier Part Number 1: 399-1170-1-ND
footprint CAPC1608N (Chip Capacitor, Body 1.6x0.8mm, IPC Medium Density)
footprint CAPC3216N (Chip Capacitor, Body 3.2x1.6mm, IPC Medium Density)
footprint CAPC2012X135N (Chip Capacitor, Body 2.0x1.2mm, 0805, IPC Medium Density)
pins: 1, 2

## CAPC_100n_0805_X7R_100V_10%
designator C?, comment value 100n  (hidden comment: approved sub OK)
Capacitor SMD Cer 100nF 10% 100V X7R 0805; Manufacturer 1: TDK Corporation; Manufacturer Part Number 1: C2012X7R2A104K; Ratings: 100V; X7R; Material: ceramic; SCDType: undef; Package / Case: 0805; Tolerance: ±10%; Supplier 1: Digi-Key; Supplier Part Number 1: 445-1418-1-ND
footprint CAPC2012X135N (Chip Capacitor, Body 2.0x1.2mm, 0805, IPC Medium Density)
pins: 1, 2

## CAPC_100n_1206_NP0_50V_5%
designator C?, comment Tolerance: ±5%  Ratings: 50V; NP0  (hidden comment: 100n)
Capacitor SMD Cer 100nF 1206 NP0 50V 5%; Manufacturer 1: TDK Corporation; Manufacturer Part Number 1: C3216C0G1H104J160AA; SCDType: undef; Operating Temperature: -55°C ~ 125°C; Package / Case: 1206 (3216 Metric); Size / Dimension: 0.126" L x 0.063" W (3.20mm x 1.60mm); Thickness (Max): 0.075" (1.90mm); Supplier 1: Digi-Key; Supplier Part Number 1: 445-7694-1-ND; ComponentLink1URL: http://product.tdk.com/capacitor/mlcc/en/documents/mlcc_commercial_general_en.pdf; ComponentLink1Description: http://product.tdk.com/capacitor/mlcc/en/documents/mlcc_commercial_general_en.pdf; Value: 100n
footprint CAPC3216X180N (Chip Capacitor, Body 3.2x1.6mm, 1.8mm H, 1206, IPC Medium Density)
pins: 1, 2

## CAPC_100p_0402_NP0_50V_5%
designator C?, comment 100p
Capacitor SMD Cer 100pF 5% 50V NP0 0402; Manufacturer 1: Yageo; Manufacturer Part Number 1: CC0402JRNPO9BN101; Ratings: 50V; NP0; SCDType: spec; Tolerance: ±5%; Operating Temperature: -55°C ~ 125°C; Package / Case: 0402 (1005 Metric); Size / Dimension: 0.039" L x 0.020" W (1.00mm x 0.50mm); Supplier 1: Digi-Key; Supplier Part Number 1: 311-1024-1-ND; RoHS 1: RoHS Compliant; ComponentLink1URL: http://www.yageo.com/documents/recent/UPY-GP_NP0_16V-to-50V_9.pdf; ComponentLink1Description: http://www.yageo.com/documents/recent/UPY-GP_NP0_16V-to-50V_9.pdf; Supplier 2: Digi-Key; Supplier Part Number 2: 1276-1025-1-ND; Manufacturer 2: Samsung Electro-Mechanics America, Inc; Manufacturer Part Number 2: CL05C101JB5NNNC; RoHS 2: RoHS Compliant; ComponentLink2URL: http://www.samsungsem.com/servlet/FileDownload?type=spec&file=CL05C101JB5NNNC.pdf; ComponentLink2Description: http://www.samsungsem.com/servlet/FileDownload?type=spec&file=CL05C101JB5NNNC.pdf; Supplier 3: Digi-Key; Supplier Part Number 3: 445-1247-1-ND; Manufacturer 3: TDK Corporation; Manufacturer Part Number 3: C1005C0G1H101J050BA; RoHS 3: RoHS Compliant; ComponentLink3URL: http://product.tdk.com/capacitor/mlcc/en/documents/mlcc_commercial_general_en.pdf; ComponentLink3Description: http://product.tdk.com/capacitor/mlcc/en/documents/mlcc_commercial_general_en.pdf; Supplier 4: Digi-Key; Supplier Part Number 4: 399-3194-1-ND; Manufacturer 4: Kemet; Manufacturer Part Number 4: C0402C101J5GACTU; RoHS 4: RoHS Compliant; ComponentLink4URL: http://www.kemet.com/datasheets&C0402C101J5GACTU; ComponentLink4Description: http://www.kemet.com/datasheets&C0402C101J5GACTU; Value: 100p
footprint CAPC1005X55N (Chip Capacitor, Body 1.0x0.5mm, 0402, IPC Medium Density)
pins: 1, 2

## CAPC_100p_0603_NP0_50V_1%
designator C?, comment Tolerance: ±1%  (hidden comment: 100p)
Capacitor SMD Cer 100pF 1% 50V NP0 0603; Manufacturer 1: AVX Corporation; Manufacturer Part Number 1: 06035A101FAT2A; Ratings: 50V; NP0; SCDType: source; Operating Temperature: -55°C ~ 125°C; Package / Case: 0603 (1608 Metric); Size / Dimension: 0.063" L x 0.032" W (1.60mm x 0.81mm); Thickness (Max): 0.035" (0.90mm); ComponentLink1URL: http://www.avx.com/docs/Catalogs/ccog.pdf; ComponentLink1Description: http://www.avx.com/docs/Catalogs/ccog.pdf; Supplier 1: Digi-Key; Supplier Part Number 1: 478-6202-1-ND; Supplier 2: Digi-Key; Supplier Part Number 2: 1276-2159-1-ND; Manufacturer 2: Samsung Electro-Mechanics America, Inc; Manufacturer Part Number 2: CL10C101FB8NNNC; RoHS 2: RoHS Compliant; ComponentLink2URL: http://www.samsungsem.com/servlet/FileDownload?type=spec&file=CL10C101FB8NNNC.pdf; ComponentLink2Description: http://www.samsungsem.com/servlet/FileDownload?type=spec&file=CL10C101FB8NNNC.pdf; RoHS 1: RoHS Compliant; Supplier 3: Digi-Key; Supplier Part Number 3: 399-7819-1-ND; Manufacturer 3: Kemet; Manufacturer Part Number 3: C0603C101F5GACTU; RoHS 3: RoHS Compliant; ComponentLink3URL: http://www.kemet.com/datasheets&C0603C101F5GACTU; ComponentLink3Description: http://www.kemet.com/datasheets&C0603C101F5GACTU; Value: 100p
footprint CAPC1608X90N (Chip Capacitor, Body 1.6x0.8mm, 0603, IPC Medium Density)
pins: 1, 2

## CAPC_120p_0603_C0G_50V_10%
designator C?, comment 120p
Capacitor SMD Cer 120pF 10% 50V NP0 0603; Manufacturer 1: Kemet; Manufacturer Part Number 1: C0603C121K5GACTU; Ratings: 50V; NP0; SCDType: spec; Tolerance: ±10%; Operating Temperature: -55°C ~ 125°C; Package / Case: 0603 (1608 Metric); Supplier 1: Mouser; Supplier Part Number 1: 80-C0603C121K5G; Value: 120p
footprint CAPC1608X90N (Chip Capacitor, Body 1.6x0.8mm, 0603, IPC Medium Density)
pins: 1, 2

## CAPC_150p_0603_C0G_50V_10%
designator C?, comment 150p
Capacitor SMD Cer 150pF 10% 50V C0G 0603; Manufacturer 1: Kemet; Manufacturer Part Number 1: C0603C151K5GACTU; Ratings: 50V; C0G; SCDType: spec; Tolerance: ±10%; Operating Temperature: -55°C ~ 125°C; Package / Case: 0603 (1608 Metric); Supplier 1: Mouser; Supplier Part Number 1: 80-C0603C151K5G; Value: 150p
footprint CAPC1608X90N (Chip Capacitor, Body 1.6x0.8mm, 0603, IPC Medium Density)
pins: 1, 2

## CAPC_180p_0402_NP0_50V_5%
designator C?, comment 180p
Capacitor SMD Cer 180pF 5% 50V NP0 0402; Manufacturer 1: AVX Corporation; Manufacturer Part Number 1: 04025A181JAT2A; Ratings: 50V; NP0; SCDType: spec; Tolerance: ±5%; Operating Temperature: -55°C ~ 125°C; Package / Case: 0402 (1005 Metric); Size / Dimension: 0.039" L x 0.020" W (1.00mm x 0.50mm); Manufacturer 2: Murata Electronics North America; Manufacturer Part Number 2: GRM1555C1H181JA01D; Supplier 1: Digi-Key; Supplier Part Number 1: 478-1085-1-ND; ComponentLink1URL: http://www.avx.com/docs/Catalogs/ccog.pdf; ComponentLink1Description: http://www.avx.com/docs/Catalogs/ccog.pdf; Supplier 2: Digi-Key; Supplier Part Number 2: 490-3231-1-ND; ComponentLink2URL: http://psearch.murata.com/capacitor/product/GRM1555C1H181JA01#.pdf; ComponentLink2Description: http://psearch.murata.com/capacitor/product/GRM1555C1H181JA01#.pdf; Value: 180p
footprint CAPC1005X55N (Chip Capacitor, Body 1.0x0.5mm, 0402, IPC Medium Density)
pins: 1, 2

## CAPC_180p_0603_NP0_50V_1%
designator C?, comment Tolerance: ±1%  (hidden comment: 180p)
Capacitor SMD Cer 180pF 1% 50V NP0 0603; Manufacturer 1: AVX Corporation; Manufacturer Part Number 1: 06035A181FAT2A; Ratings: 50V; NP0; SCDType: source; Operating Temperature: -55°C ~ 125°C; Package / Case: 0603 (1608 Metric); Size / Dimension: 0.063" L x 0.031" W (1.60mm x 0.80mm); Supplier 1: Digi-Key; Supplier Part Number 1: 478-6029-1-ND; ComponentLink1URL: http://www.avx.com/docs/Catalogs/ccog.pdf; ComponentLink1Description: http://www.avx.com/docs/Catalogs/ccog.pdf; Supplier 2: Digi-Key; Supplier Part Number 2: 1276-2211-1-ND; Manufacturer 2: Samsung Electro-Mechanics America, Inc; Manufacturer Part Number 2: CL10C181FB8NNNC; RoHS 2: RoHS Compliant; ComponentLink2URL: http://www.samsungsem.com/servlet/FileDownload?type=spec&file=CL10C181FB8NNNC.pdf; ComponentLink2Description: http://www.samsungsem.com/servlet/FileDownload?type=spec&file=CL10C181FB8NNNC.pdf; Supplier 3: Digi-Key; Supplier Part Number 3: C0603C181F5GACTU-ND; Manufacturer 3: Kemet; Manufacturer Part Number 3: C0603C181F5GACTU; RoHS 3: RoHS Compliant; ComponentLink3URL: http://www.kemet.com/datasheets&C0603C181F5GACTU; ComponentLink3Description: http://www.kemet.com/datasheets&C0603C181F5GACTU; Value: 180p
footprint CAPC1608X90N (Chip Capacitor, Body 1.6x0.8mm, 0603, IPC Medium Density)
pins: 1, 2

## CAPC_180p_0603_NP0_50V_5%
designator C?, comment 180p
Capacitor SMD Cer 180pF 5% 50V NP0 0603; Manufacturer 1: Yageo; Manufacturer Part Number 1: CC0603JRNPO9BN181; Ratings: 50V; C0G; SCDType: undef; Tolerance: ±5%; Operating Temperature: -55°C ~ 125°C; Package / Case: 0603 (1608 Metric); Supplier 1: Digi-Key; Supplier Part Number 1: 311-1072-1-ND; ComponentLink1URL: http://www.yageo.com/documents/recent/UPY-GP_NP0_16V-to-50V_8.pdf; ComponentLink1Description: Datasheet; Size / Dimension: 0.063" L x 0.031" W (1.60mm x 0.80mm); Value: 180p
footprint CAPC1608X90N (Chip Capacitor, Body 1.6x0.8mm, 0603, IPC Medium Density)
pins: 1, 2

## CAPC_180p_1206_NP0_50V_10%
designator C?, comment 180p
Capacitor SMD Cer 180pF 10% 50V NP0 1206; Manufacturer 1: Kemet; Manufacturer Part Number 1: C1206C181K5GACTU; Ratings: 50V; NP0; SCDType: spec; Tolerance: ±10%; Operating Temperature: -55°C ~ 125°C; Package / Case: 1206 (3216 Metric); Supplier 1: Digi-Key; Supplier Part Number 1: C1206C181K5GACTU-ND; Value: 180p
footprint CAPC3216X180N (Chip Capacitor, Body 3.2x1.6mm, 1.8mm H, 1206, IPC Medium Density)
pins: 1, 2

## CAPC_220n_0603_X7R_16V_10%
designator C?, comment value 220n  (hidden comment: approved sub OK)
Capacitor SMD Cer 220nF 10% 16V X7R 0603; Manufacturer 1: TDK Corporation; Manufacturer Part Number 1: C1608X7R1C224K; Ratings: 16V; X7R; SCDType: undef; Tolerance: ±10%; Package / Case: 0603 (1608 metric); Supplier 1: Digi-Key; Supplier Part Number 1: 445-1318-1-ND
footprint CAPC1608X90N (Chip Capacitor, Body 1.6x0.8mm, 0603, IPC Medium Density)
pins: 1, 2